# Altium schematic symbol library MCP73844-840I_MS.SchLib: 1 symbol
Pins are listed as number, name and electrical type; pins without a type are passive.

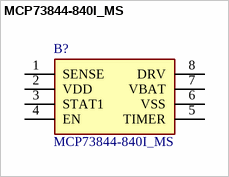
[diagram p0: symbol MCP73844-840I_MS]

## MCP73844-840I_MS
designator B?
Li-Ion Charge Controller 8.4V MSOP8; Manufacturer_Name: Microchip; Manufacturer_Part_Number: MCP73844-840I/MS; Geometry.Height: 1.1mm; TME Electronic Components Part Number: *; TME Electronic Components Price/Stock: *; Datasheet Link: http://ww1.microchip.com/downloads/en/DeviceDoc/21823D.pdf
footprint SOP65P490X110-8N
pins: 1 SENSE, 2 VDD, 3 STAT1, 4 EN, 5 TIMER, 6 VSS, 7 VBAT, 8 DRV